# EAGLE library part XCL206B (library XCL068)
Inductor Built in Step-Down 'micro DC/DC' Converter Datasheet: http://www.torex.co.jp/english/products/dcdc_converters/data/XCL205~207.pdf
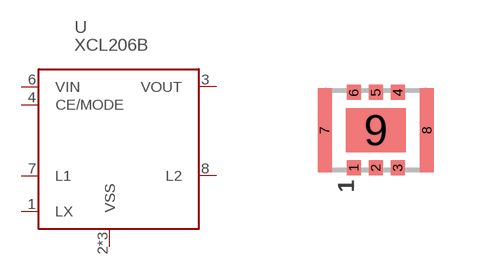
[diagram p0: symbol with the pads of 56-BCPGA; footprint 56-BCPGA]

Designator prefix -

## XCL206B  [56-BCPGA]
1  LX
2  VSS
3  VOUT
4  CE/MODE
5  VSS
6  VIN
7  L1
8  L2
9  VSS

## Footprint 56-BCPGA (pad centres in mm)
56-BCPGA
smd 0.35 x 0.375: 1 -0.55,-0.938; 2 0,-0.938; 3 0.55,-0.938; 4 0.55,0.938; 5 0,0.938; 6 -0.55,0.938
smd 0.35 x 2.1: 7 -1.28,0; 8 1.28,0
smd 1.5 x 1.1: 9 0,0